# Altium footprint library 632723130112.PcbLib: 2 footprints
Each footprint in its own frame and in the unit in brackets; x right, y up, seen from the top. Pads: shape width x height; smd on the part's side, far side on the other; paste and mask are expansions set on the pad; w line width, h text height; cw(c..) or ccw(c..) is an arc to the next point about the centre after c.
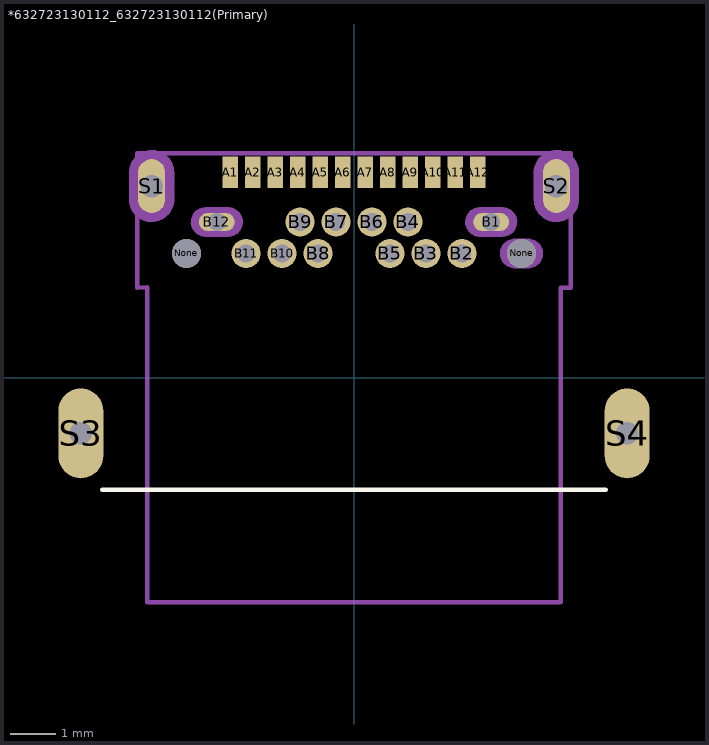
[diagram p0: the footprints below, top view; thin cyan lines are the x and y axes]

## *632723130112_632723130112(Primary) [mm]
pads (30):
  rect 0.35x0.7 smd: A1(-2.75,4.575) A2(-2.25,4.575) A3(-1.75,4.575) A4(-1.25,4.575) A5(-0.75,4.575) A6(-0.25,4.575) A7(0.25,4.575) A8(0.75,4.575) A9(1.25,4.575) A10(1.75,4.575) A11(2.25,4.575) A12(2.75,4.575)
  oval 0.8x0.4 hole 0.4: B1(3.05,3.465) B12(-3.05,3.465)
  round 0.65 hole 0.4: B2(2.4,2.765) B3(1.6,2.765) B4(1.2,3.465) B5(0.8,2.765) B6(0.4,3.465) B7(-0.4,3.465) B8(-0.8,2.765) B9(-1.2,3.465) B10(-1.6,2.765) B11(-2.4,2.765)
  round 0.65 hole 0.65 unplated: None(-3.725,2.765) None(3.725,2.765)
  oval 0.6x1.2 hole 0.5: S1(-4.5,4.265) S2(4.5,4.265)
  oval 1x2 hole 0.5: S3(-6.075,-1.235) S4(6.075,-1.235)
Top Overlay:
  lines w0.1: -5.6,-2.485 5.6,-2.485
Top Solder:
  drawing of 5 lines, arcs and shapes, not listed
Bottom Solder:
  drawing of 4 lines, arcs and shapes, not listed
Mechanical 1:
  drawing of 7 lines, arcs and shapes, not listed
Mechanical 4:
  drawing of 28 lines, arcs and shapes, not listed
3D body "632723130112.stp": height 3.43, standoff -0.17, extent -9.097,-0.643 0.897,11.707

## PCBComponent_1 [mm]